# EAGLE library part AD8606 (library thomas_library)
The AD8606 is a dual op-amp from Analog Devices.
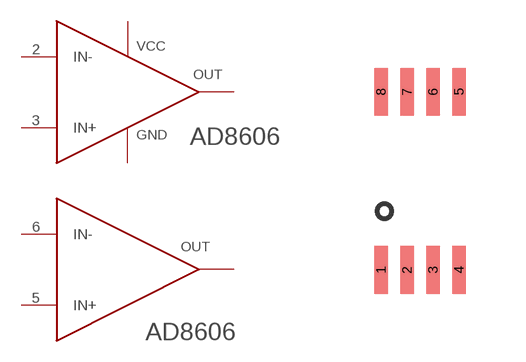
[diagram p14: symbol with the pads of MSOP_8; footprint MSOP_8]

Designator prefix IC; gates G$2=OPAMP G$1=OPAMP_PRIMARY

## AD8606  [MSOP_8]
1  G$1:OUT
2  G$1:IN-
3  G$1:IN+
4  G$1:GND
5  G$2:IN+
6  G$2:IN-
7  G$2:OUT
8  G$1:VCC

## Footprint MSOP_8 (pad centres in mm)
smd 0.34 x 1.19: 1 -0.975,-2.23; 2 -0.325,-2.23; 3 0.325,-2.23; 4 0.975,-2.23; 5 0.975,2.23; 6 0.325,2.23; 7 -0.325,2.23; 8 -0.975,2.23